# EAGLE library part BQ25713/B (library quentin)
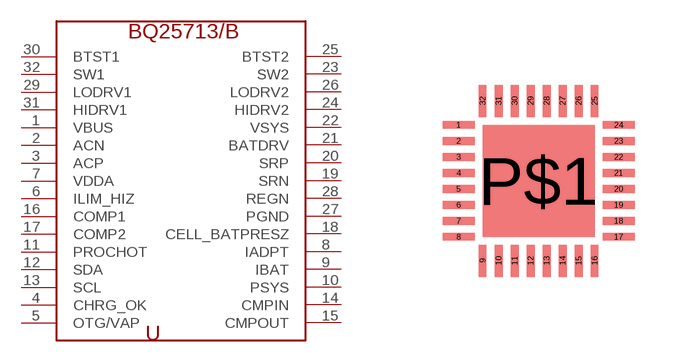
[diagram p26: symbol with the pads of S-PWQFN-N32; footprint S-PWQFN-N32]

Designator prefix -

## BQ25713/B  [S-PWQFN-N32]
1  VBUS
2  ACN
3  ACP
4  CHRG_OK
5  OTG/VAP
6  ILIM_HIZ
7  VDDA
8  IADPT
9  IBAT
10  PSYS
11  PROCHOT
12  SDA
13  SCL
14  CMPIN
15  CMPOUT
16  COMP1
17  COMP2
18  CELL_BATPRESZ
19  SRN
20  SRP
21  BATDRV
22  VSYS
23  SW2
24  HIDRV2
25  BTST2
26  LODRV2
27  PGND
28  REGN
29  LODRV1
30  BTST1
31  HIDRV1
32  SW1

## Footprint S-PWQFN-N32 (pad centres in mm)
smd 0.8 x 0.18: 1 -0.6,3.4; 8 -0.6,0.6; 17 3.4,0.6; 24 3.4,3.4
smd 0.8 x 0.2: 2 -0.6,3; 3 -0.6,2.6; 4 -0.6,2.2; 5 -0.6,1.8; 6 -0.6,1.4; 7 -0.6,1; 18 3.4,1; 19 3.4,1.4; 20 3.4,1.8; 21 3.4,2.2; 22 3.4,2.6; 23 3.4,3
smd 0.18 x 0.8: 9 0,0; 16 2.8,0; 25 2.8,4; 32 0,4
smd 0.2 x 0.8: 10 0.4,0; 11 0.8,0; 12 1.2,0; 13 1.6,0; 14 2,0; 15 2.4,0; 26 2.4,4; 27 2,4; 28 1.6,4; 29 1.2,4; 30 0.8,4; 31 0.4,4
smd 2.8 x 2.8: P$1 1.4,2